# EAGLE library part 4051 (library atari)
8-Channel Analog Multiplexer/Demultiplexer
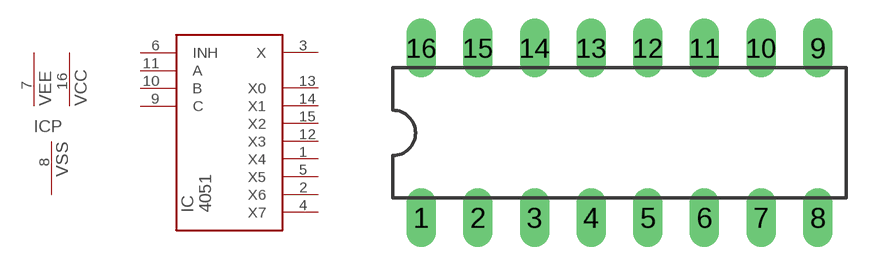
[diagram p5: symbol with the pads of DIL16; footprint DIL16]

Designator prefix IC; gates =4051 P=VCCVSSVEE

## 4051  [DIL16]
1  :X4
2  :X6
3  :X
4  :X7
5  :X5
6  :INH  in
7  P:VEE  pwr
8  P:VSS  pwr
9  :C  in
10  :B  in
11  :A  in
12  :X3
13  :X0
14  :X1
15  :X2
16  P:VCC  pwr

## Footprint DIL16 (pad centres in mm)
drill 0.813 long: 1 -8.89,-3.81; 2 -6.35,-3.81; 3 -3.81,-3.81; 4 -1.27,-3.81; 5 1.27,-3.81; 6 3.81,-3.81; 7 6.35,-3.81; 8 8.89,-3.81; 9 8.89,3.81; 10 6.35,3.81; 11 3.81,3.81; 12 1.27,3.81; 13 -1.27,3.81; 14 -3.81,3.81; 15 -6.35,3.81; 16 -8.89,3.81